# Altium schematic symbol library XNOR_GATE.SchLib: 1 symbol
Pins are listed as number, name and electrical type; pins without a type are passive.

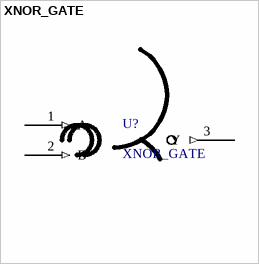
[diagram p0: symbol XNOR_GATE]

## XNOR_GATE
designator U?
XNOR gate symbol
pins: 1 A (in), 2 B (in), 3 Y (out)